# Altium footprint library DGK.PcbLib: 1 footprints
Each footprint in its own frame and in the unit in brackets; x right, y up, seen from the top. Pads: shape width x height; smd on the part's side, far side on the other; paste and mask are expansions set on the pad; w line width, h text height; cw(c..) or ccw(c..) is an arc to the next point about the centre after c.
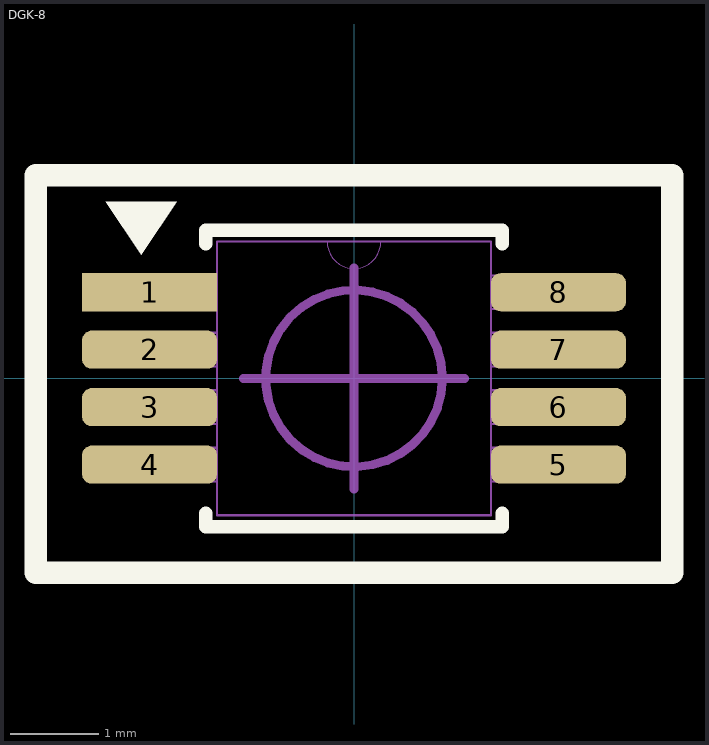
[diagram p0: the footprint, top view; thin cyan lines are the x and y axes]

## DGK-8 [mm]
pads (8):
  rect 1.528x0.431 smd paste+0 mask+0: 1(-2.313,0.975)
  rrect50% 1.528x0.431 smd paste+0 mask+0: 2(-2.313,0.325) 3(-2.313,-0.325) 4(-2.313,-0.975) 5(2.313,-0.975) 6(2.313,-0.325) 7(2.313,0.325) 8(2.313,0.975)
Top Overlay:
  region: -2.006,1.998 -2.806,1.998 -2.406,1.398
  lines w0.152: -1.676,-1.523 -1.676,-1.676 1.676,-1.676 1.676,-1.523 ; -1.676,1.523 -1.676,1.676 1.676,1.676 1.676,1.523
  lines w0.254: -3.6,-2.2 3.6,-2.2 3.6,2.3 0.7,2.3 -3.6,2.3 -3.6,-2.2
Top Assembly:
  lines w0: -0.305,1.549 ccw(c0,1.549) 0.305,1.549
  lines w0.025: -2.527,-1.165 -2.527,-0.784 -1.549,-0.784 -1.549,-1.165 -2.527,-1.165 ; -2.527,-0.516 -2.527,-0.135 -1.549,-0.135 -1.549,-0.516 -2.527,-0.516 ; -2.527,0.135 -2.527,0.516 -1.549,0.516 -1.549,0.135 -2.527,0.135 ; -2.527,0.784 -2.527,1.165 -1.549,1.165 -1.549,0.784 -2.527,0.784 ; -1.549,-1.549 1.549,-1.549 1.549,1.549 -1.549,1.549 -1.549,-1.549 ; 1.549,-1.165 1.549,-0.784 2.527,-0.784 2.527,-1.165 1.549,-1.165 ; 1.549,-0.516 1.549,-0.135 2.527,-0.135 2.527,-0.516 1.549,-0.516 ; 1.549,0.135 1.549,0.516 2.527,0.516 2.527,0.135 1.549,0.135 ; 1.549,0.784 1.549,1.165 2.527,1.165 2.527,0.784 1.549,0.784
Top Component Outline:
  circle w0.1: c0,0 r1
  lines w0.1: -1.25,0 1.25,0 ; 0,-1.25 0,1.25
3D body "DGK8.step": height 1.09, standoff 0, extent -2.527,-1.549 2.527,1.549